# EAGLE library part W25Q40BW (library W25Q40WSN)
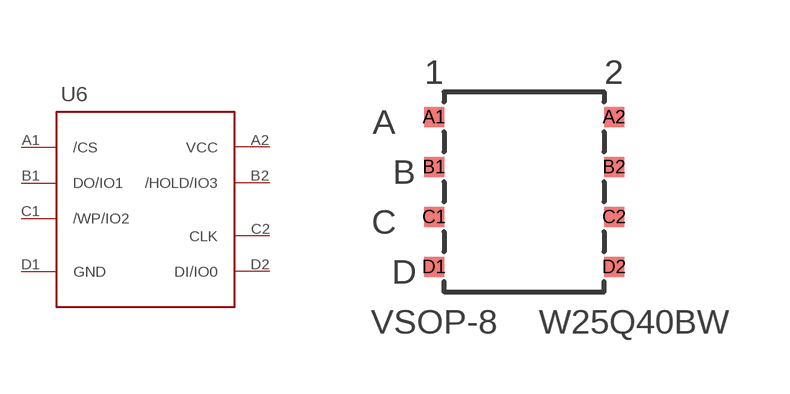
[diagram p0: symbol with the pads of VSOP-8; footprint VSOP-8]

Designator prefix -

## W25Q40BW  [VSOP-8]
A1  /CS  in
A2  VCC  pwr
B1  DO/IO1
B2  /HOLD/IO3
C1  /WP/IO2
C2  CLK  in
D1  GND  pwr
D2  DI/IO0

## Footprint VSOP-8 (pad centres in mm)
smd 0.5 x 0.5: A1 -2.25,2.875; A2 2.25,2.875; B1 -2.25,1.625; B2 2.25,1.625; C1 -2.25,0.375; C2 2.25,0.375; D1 -2.25,-0.875; D2 2.25,-0.875